# EAGLE library part 30A_RELAY (library Relays_V0.1)
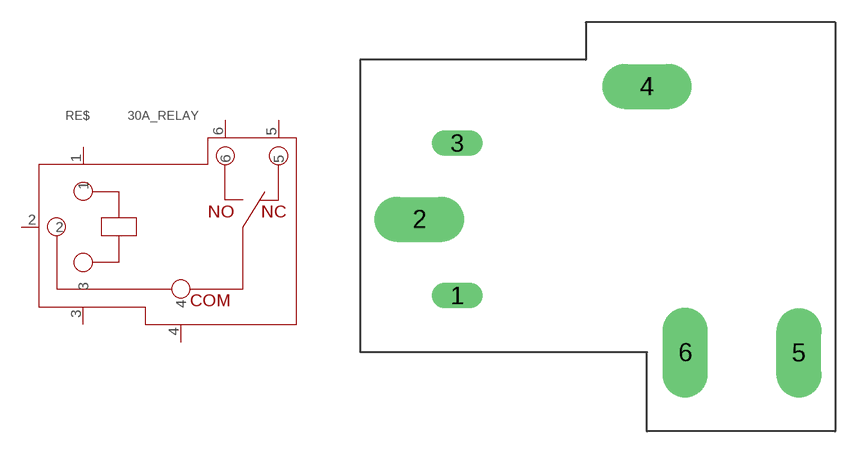
[diagram p0: symbol with the pads of 30A_RELAY; footprint 30A_RELAY]

Designator prefix RE$

## 30A_RELAY  [30A_RELAY]
1  1
2  2
3  3
4  4
5  5
6  6

## Footprint 30A_RELAY (pad centres in mm)
drill 1 pad 1.7 long: 1 -9.4,-4.6; 3 -9.4,5.6
drill 2 pad 3 long: 2 -11.94,0.5; 4 3.3,9.4; 5 13.48,-8.444; 6 5.86,-8.424